# EAGLE library part BT840 (library Nrf52_BT840)
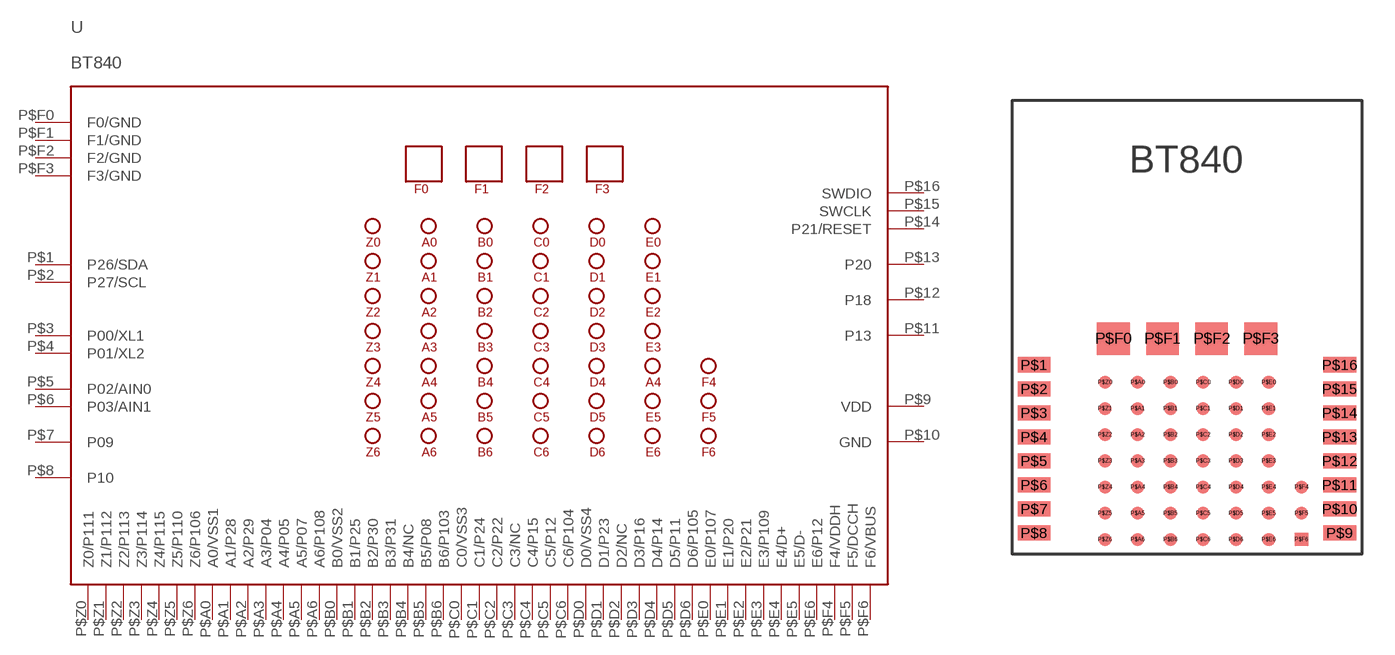
[diagram p0: symbol with the pads of BT840; footprint BT840]

Designator prefix U

## BT840 (DESCRIPTION: NRF52840 BLUETOOTH 5, THREAD, ZI; LINK: https://www.fanstel.com/bt840f-nrf52840-ble-5-module-secure-iot-802154-thread-zigbee; MANUFACTURER: Fanstel; MANUFACTURER_PART_NUM: BT840)  [BT840]
P$1  P26/SDA
P$2  P27/SCL
P$3  P00/XL1
P$4  P01/XL2
P$5  P02/AIN0
P$6  P03/AIN1
P$7  P09
P$8  P10
P$9  VDD
P$10  GND
P$11  P13
P$12  P18
P$13  P20
P$14  P21/RESET
P$15  SWCLK
P$16  SWDIO
P$A0  A0/VSS1
P$A1  A1/P28
P$A2  A2/P29
P$A3  A3/P04
P$A4  A4/P05
P$A5  A5/P07
P$A6  A6/P108
P$B0  B0/VSS2
P$B1  B1/P25
P$B2  B2/P30
P$B3  B3/P31
P$B4  B4/NC
P$B5  B5/P08
P$B6  B6/P103
P$C0  C0/VSS3
P$C1  C1/P24
P$C2  C2/P22
P$C3  C3/NC
P$C4  C4/P15
P$C5  C5/P12
P$C6  C6/P104
P$D0  D0/VSS4
P$D1  D1/P23
P$D2  D2/NC
P$D3  D3/P16
P$D4  D4/P14
P$D5  D5/P11
P$D6  D6/P105
P$E0  E0/P107
P$E1  E1/P20
P$E2  E2/P21
P$E3  E3/P109
P$E4  E4/D+
P$E5  E5/D-
P$E6  E6/P12
P$F0  F0/GND
P$F1  F1/GND
P$F2  F2/GND
P$F3  F3/GND
P$F4  F4/VDDH
P$F5  F5/DCCH
P$F6  F6/VBUS
P$Z0  Z0/P111
P$Z1  Z1/P112
P$Z2  Z2/P113
P$Z3  Z3/P114
P$Z4  Z4/P115
P$Z5  Z5/P110
P$Z6  Z6/P106

## Footprint BT840 (pad centres in mm)
smd 1.5 x 0.7: P$1 -7.112,3.847; P$2 -7.112,2.747; P$3 -7.112,1.647; P$4 -7.112,0.547; P$5 -7.112,-0.553; P$6 -7.112,-1.653; P$7 -7.112,-2.753; P$8 -7.112,-3.853; P$9 6.888,-3.853; P$10 6.888,-2.753; P$11 6.888,-1.653; P$12 6.888,-0.553; P$13 6.888,0.547; P$14 6.888,1.647; P$15 6.888,2.747; P$16 6.888,3.847
smd 0.6 x 0.6: P$A0 -2.362,3.047; P$A1 -2.362,1.847; P$A2 -2.362,0.647; P$A3 -2.362,-0.553; P$A4 -2.362,-1.753; P$A5 -2.362,-2.953; P$A6 -2.362,-4.153; P$B0 -0.862,3.047; P$B1 -0.862,1.847; P$B2 -0.862,0.647; P$B3 -0.862,-0.553; P$B4 -0.862,-1.753; P$B5 -0.862,-2.953; P$B6 -0.862,-4.153; P$C0 0.638,3.047; P$C1 0.638,1.847; P$C2 0.638,0.647; P$C3 0.638,-0.553; P$C4 0.638,-1.753; P$C5 0.638,-2.953; P$C6 0.638,-4.153; P$D0 2.138,3.047; P$D1 2.138,1.847; P$D2 2.138,0.647; P$D3 2.138,-0.553; P$D4 2.138,-1.753; P$D5 2.138,-2.953; P$D6 2.138,-4.153; P$E0 3.638,3.047; P$E1 3.638,1.847; P$E2 3.638,0.647; P$E3 3.638,-0.553; P$E4 3.638,-1.753; P$E5 3.638,-2.953; P$E6 3.638,-4.153; P$F4 5.138,-1.753; P$F5 5.138,-2.953; P$F6 5.138,-4.153; P$Z0 -3.862,3.047; P$Z1 -3.862,1.847; P$Z2 -3.862,0.647; P$Z3 -3.862,-0.553; P$Z4 -3.862,-1.753; P$Z5 -3.862,-2.953; P$Z6 -3.862,-4.153
smd 1.5 x 1.5: P$F0 -3.482,5.047; P$F1 -1.232,5.047; P$F2 1.018,5.047; P$F3 3.268,5.047